# Altium footprint library ST_QFN50P100X145X60-6L.PcbLib: 1 footprints
Each footprint in its own frame and in the unit in brackets; x right, y up, seen from the top. Pads: shape width x height; smd on the part's side, far side on the other; paste and mask are expansions set on the pad; w line width, h text height; cw(c..) or ccw(c..) is an arc to the next point about the centre after c.
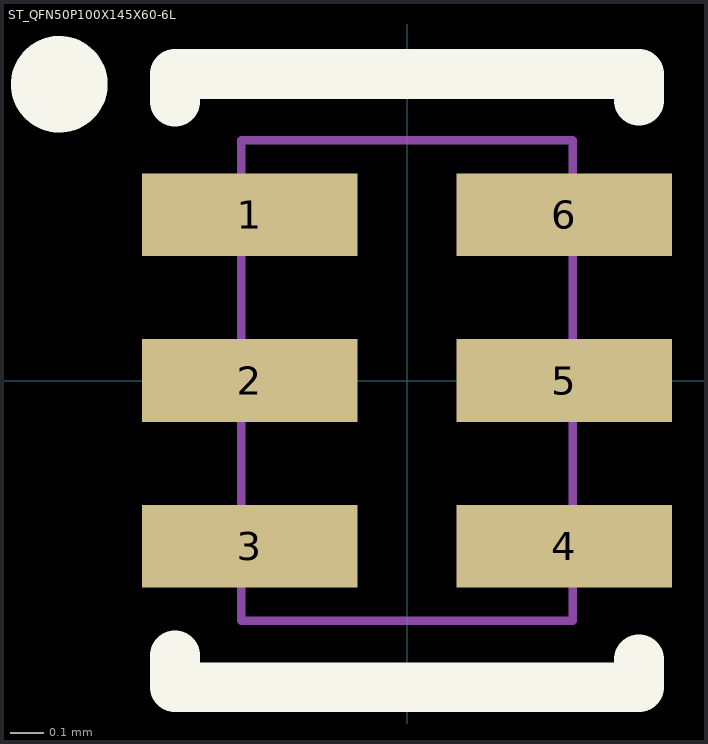
[diagram p0: the footprint, top view; thin cyan lines are the x and y axes]

## ST_QFN50P100X145X60-6L [mm] "ST_QFN50P100X145X60-6L"
pads (6):
  rect 0.65x0.25 smd paste-20 mask+0.025: 1(-0.475,0.5) 2(-0.475,0) 3(-0.475,-0.5) 4(0.475,-0.5) 5(0.475,0) 6(0.475,0.5)
Top Overlay:
  circle w0.15: c-1.049,0.894 r0.071
  lines w0.15: -0.7,-0.829 -0.7,-0.925 0.7,-0.925 0.7,-0.841 ; -0.7,0.841 -0.7,0.925 0.7,0.925 0.7,0.844
Top Paste:
  rectangle: -0.785,-0.618 -0.165,-0.382
  rectangle: 0.165,-0.618 0.785,-0.382
  rectangle: 0.165,-0.118 0.785,0.118
  rectangle: -0.785,-0.118 -0.165,0.118
  rectangle: 0.165,0.382 0.785,0.618
  rectangle: -0.785,0.382 -0.165,0.618
Mechanical 5:
  text "2" at -1.005,-0.1 h0.2
  text "1" at -1.005,0.4 h0.2
  text "3" at -1.005,-0.6 h0.2
  text "4" at 0.895,-0.6 h0.2
  text "5" at 0.895,-0.1 h0.2
  text "6" at 0.895,0.4 h0.2
Mechanical 6:
  lines w0.025: -0.5,-0.725 0.5,-0.725 0.5,0.725 -0.5,0.725 -0.5,-0.725
Assembly:
  lines w0.025: -0.5,-0.725 -0.5,0.725 0.5,0.725 0.5,-0.725 -0.5,-0.725
3D body: height 0.6, standoff 0.05, extent -0.5,-0.725 0.5,0.725